# Altium schematic symbol library trimpot.Schlib: 1 symbol
Pins are listed as number, name and electrical type; pins without a type are passive.

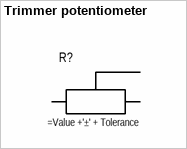
[diagram p0: symbol Trimmer potentiometer]

## Trimmer potentiometer
designator R?
pins: 1, 2, 3